# EAGLE library part TCS230 (library Mine)
TAOS Light to Frequency RGBW
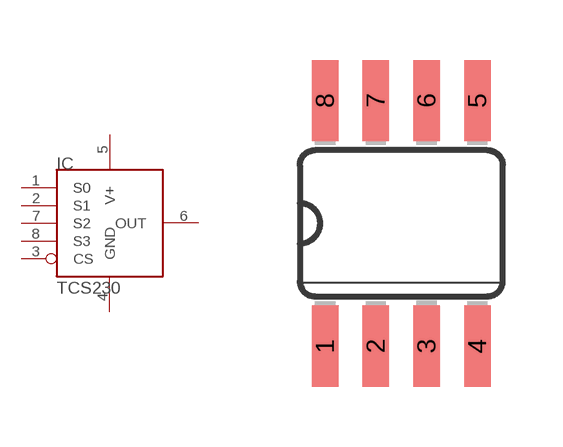
[diagram p24: symbol with the pads of SO08; footprint SO08]

Designator prefix IC

## TCS230  [SO08]
1  S0  in
2  S1  in
3  CS  in
4  GND  pwr
5  V+  pwr
6  OUT  out
7  S2  in
8  S3  in

## Footprint SO08 (pad centres in mm)
Small Outline package 8 150 mil
smd 0.66 x 2.032: 1 -1.905,-3.073; 2 -0.635,-3.073; 3 0.635,-3.073; 4 1.905,-3.073; 5 1.905,3.073; 6 0.635,3.073; 7 -0.635,3.073; 8 -1.905,3.073